# Altium footprint library myLIB.PcbLib: 150 footprints (part 6 of 10)
Each footprint in its own frame and in the unit in brackets; x right, y up, seen from the top. Pads: shape width x height; smd on the part's side, far side on the other; paste and mask are expansions set on the pad; w line width, h text height; cw(c..) or ccw(c..) is an arc to the next point about the centre after c.
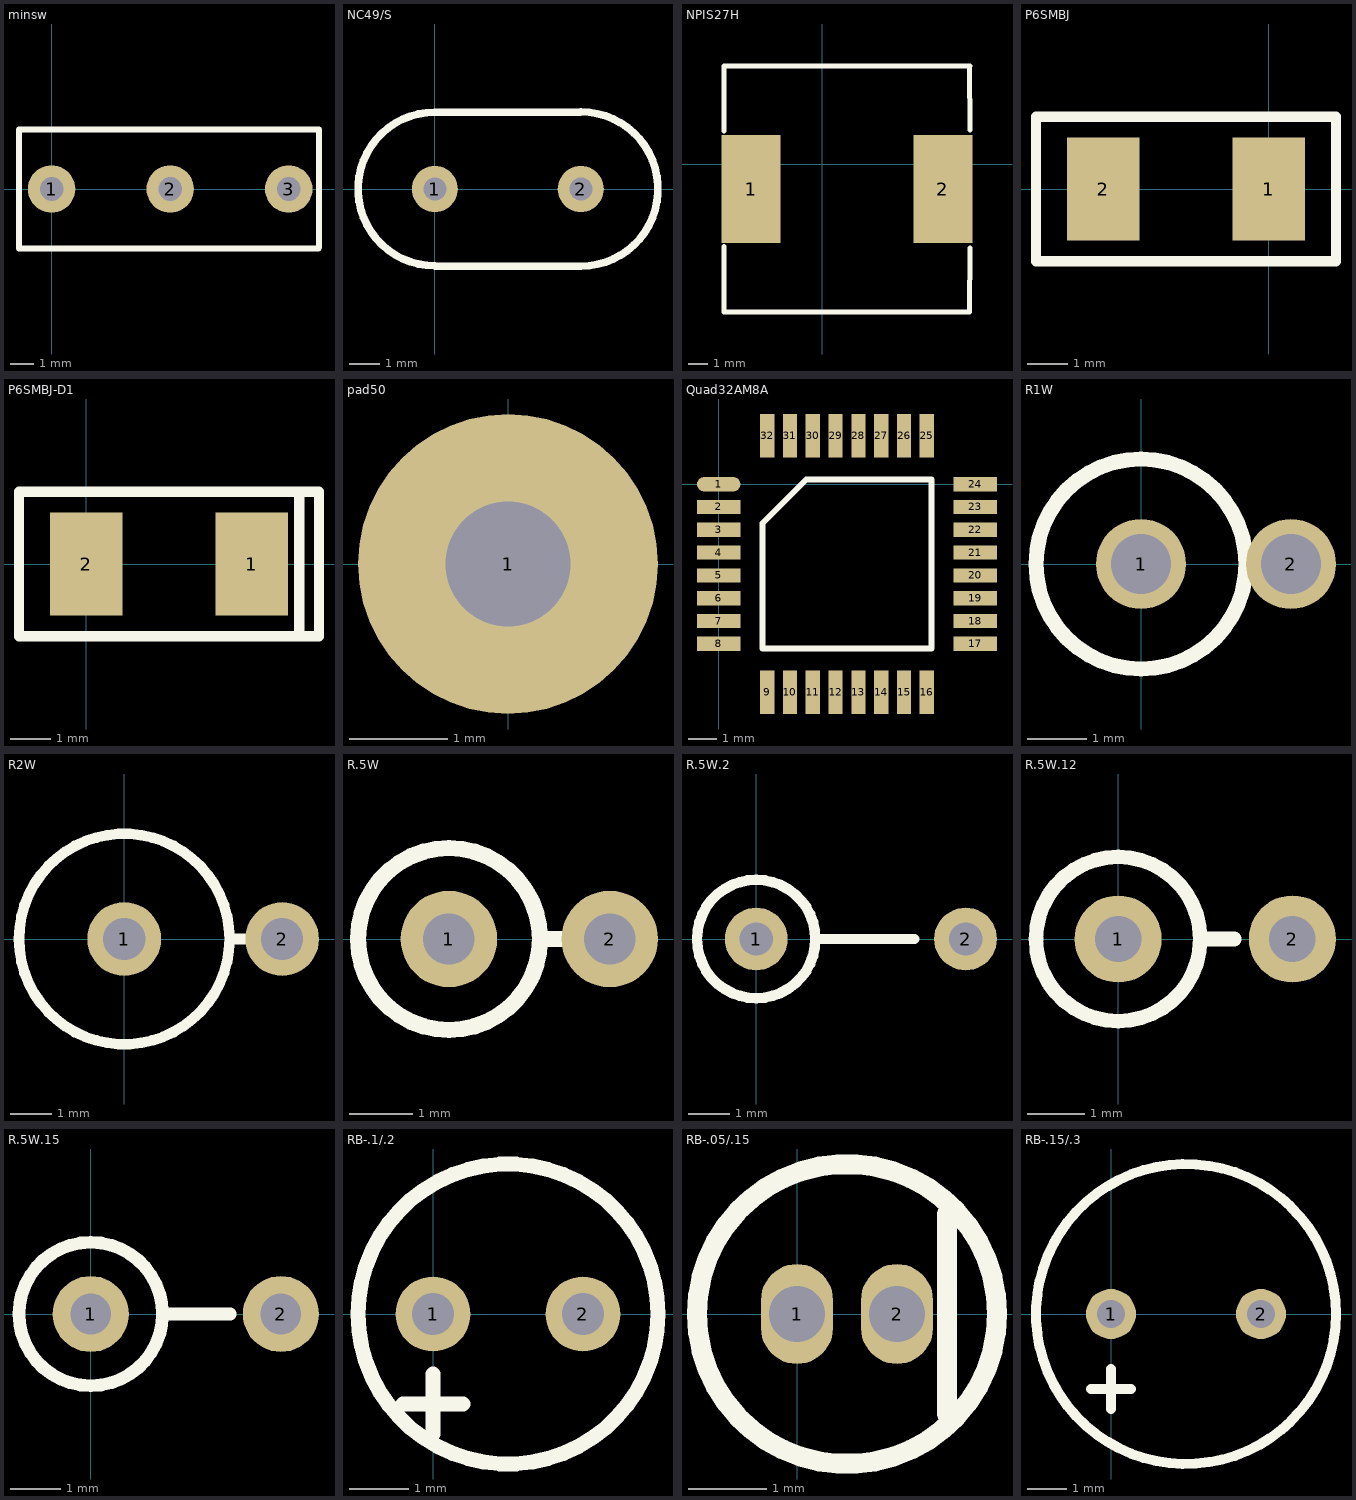
[diagram p5: the footprints below, top view; thin cyan lines are the x and y axes]

## minsw [mil]
height 393.7
pads (3):
  round 80 hole 40: 1(0,0) 2(200,0) 3(400,0)
TopOverlay:
  lines w10: -55,-100 -55,100 451,100 451,-99 450,-100 -55,-100

## NC49/S [mil]
pads (2):
  round 60 hole 30: 1(0,0) 2(190,0)
TopOverlay:
  lines w10: 0,-100 cw(c0,0) 0,100 189.5,100 ; 0.5,-100.5 190,-100.5 ccw(c190,0) 190,100.5

## NPIS27H [mil] "NPIS27H SMD induktivitás"
height 314.96
pads (2):
  rect 120x220 smd: 1(-145,-50) 2(245,-50)
TopOverlay:
  lines w10: -200,-167 -200,-300 299,-300 300,-170 ; -200,68 -200,200 300,200 299,199 300,70

## P6SMBJ [mil]
pads (2):
  rect 70x100 smd: 1(0,0) 2(-160,0)
TopOverlay:
  lines w10: -225,-70 65,-70 65,70 -225,70 -225,0 -225,-70

## P6SMBJ-D1 [mil]
pads (2):
  rect 70x100 smd: 1(160,0) 2(0,0)
TopOverlay:
  lines w10: 206,-70 206,70 ; -65,-70 225,-70 225,70 -65,70 -65,0 -65,-70

## pad50 [mil]
pads (1):
  round 120 hole 50: 1(0,0)

## Quad32AM8A [mm]
pads (32):
  oval 1.524x0.5 smd: 1(0,0)
  rect 1.524x0.5 smd: 2(0,-0.8) 3(0,-1.6) 4(0,-2.4) 5(0,-3.2) 6(0,-4) 7(0,-4.8) 8(0,-5.6) 17(9,-5.6) 18(9,-4.8) 19(9,-4) 20(9,-3.2) 21(9,-2.4) 22(9,-1.6) 23(9,-0.8) 24(9,0)
  rect 0.5x1.524 smd: 9(1.7,-7.3) 10(2.5,-7.3) 11(3.3,-7.3) 12(4.1,-7.3) 13(4.9,-7.3) 14(5.7,-7.3) 15(6.5,-7.3) 16(7.3,-7.3) 25(7.3,1.7) 26(6.5,1.7) 27(5.7,1.7) 28(4.9,1.7) 29(4.1,1.7) 30(3.3,1.7) 31(2.5,1.7) 32(1.7,1.7)
TopOverlay:
  lines w0.2: 1.535,-5.765 7.465,-5.765 7.465,0.165 3.07,0.165 1.535,-1.37 1.535,-5.765

## R1W [mil]
pads (2):
  round 60 hole 40: 1(0,0) 2(100,0)
TopOverlay:
  circle w10: c0,0 r70

## R2W [mil]
pads (2):
  round 70 hole 40: 1(0,0) 2(150,0)
TopOverlay:
  circle w10: c0,0 r100
  lines w10: 100,0 113.43,0

## R.5W [mil]
pads (2):
  round 60 hole 32: 1(100,0) 2(200,0)
TopOverlay:
  circle w10: c100,0 r56.57
  lines w10: 156.57,0 170,0

## R.5W.2 [mil]
pads (2):
  round 60 hole 32: 1(0,0) 2(200,0)
TopOverlay:
  circle w10: c0,0 r56.57
  lines w10: 56.57,0 151,0

## R.5W.12 [mil]
pads (2):
  round 60 hole 32: 1(0,0) 2(120,0)
TopOverlay:
  circle w10: c0,0 r56.57
  lines w10: 56.57,0 80,0

## R.5W.15 [mil]
pads (2):
  round 60 hole 32: 1(0,0) 2(150,0)
TopOverlay:
  circle w10: c0,0 r56.57
  lines w10: 56.57,0 110,0

## RB-.1/.2 [mil]
pads (2):
  round 50 hole 28: 1(0,0) 2(100,0)
TopOverlay:
  circle w10: c50,0 r100
  lines w10: -20,-60 20,-60 ; 0,-80 0,-40

## RB-.05/.15 [mil]
pads (2):
  oval 36x50 hole 28: 1(0,0) 2(50,0)
TopOverlay:
  circle w10: c25,0 r75
  lines w10: 75,-50 75,50

## RB-.15/.3 [mil]
pads (2):
  round 50 hole 28: 1(0,0) 2(150,0)
TopOverlay:
  circle w10: c75,0 r150
  lines w10: -20,-75 20,-75 ; 0,-95 0,-55